# EAGLE library part CP2102 (library CP2102)
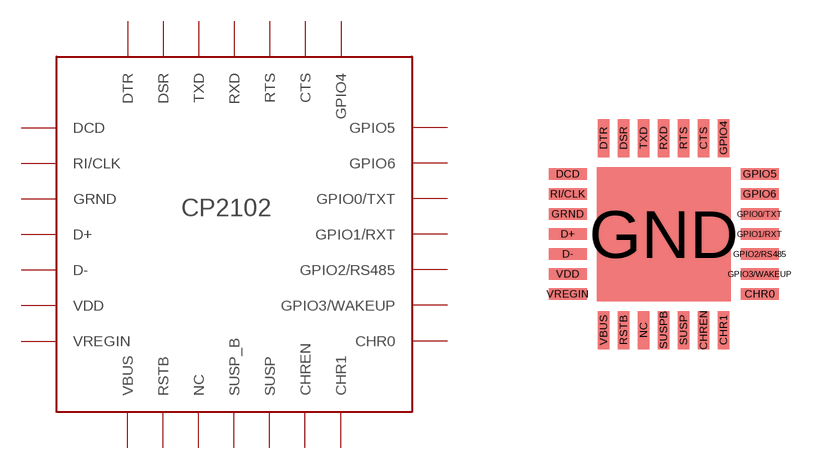
[diagram p0: symbol with the pads of CP2102; footprint CP2102]

Designator prefix -

## CP2102  [CP2102]
CHR0  CHR0
CHR1  CHR1
CHREN  CHREN
CTS  CTS
D+  D+
D-  D-
DCD  DCD
DSR  DSR
DTR  DTR
GND  GRND
GPIO0/TXT  GPIO0/TXT
GPIO1/RXT  GPIO1/RXT
GPIO2/RS485  GPIO2/RS485
GPIO3/WAKEUP  GPIO3/WAKEUP
GPIO4  GPIO4
GPIO5  GPIO5
GPIO6  GPIO6
GRND  GRND
NC  NC
RI/CLK  RI/CLK
RSTB  RSTB
RTS  RTS
RXD  RXD
SUSP  SUSP
SUSPB  SUSP_B
TXD  TXD
VBUS  VBUS
VDD  VDD
VREGIN  VREGIN

## Footprint CP2102 (pad centres in mm)
smd 0.95 x 0.28: CHR0 2.4,-1.5; D+ -2.4,0; D- -2.4,-0.5; DCD -2.4,1.5; GPIO0/TXT 2.4,0.5; GPIO1/RXT 2.4,0; GPIO2/RS485 2.4,-0.5; GPIO3/WAKEUP 2.4,-1; GPIO5 2.4,1.5; GPIO6 2.4,1; GRND -2.4,0.5; RI/CLK -2.4,1; VDD -2.4,-1; VREGIN -2.4,-1.5
smd 0.28 x 0.95: CHR1 1.5,-2.4; CHREN 1,-2.4; CTS 1,2.4; DSR -1,2.4; DTR -1.5,2.4; GPIO4 1.5,2.4; NC -0.5,-2.4; RSTB -1,-2.4; RTS 0.5,2.4; RXD 0,2.4; SUSP 0.5,-2.4; SUSPB 0,-2.4; TXD -0.5,2.4; VBUS -1.5,-2.4
smd 3.35 x 3.35: GND 0,0